# Altium footprint library PCB1.PcbLib: 7 footprints
Each footprint in its own frame and in the unit in brackets; x right, y up, seen from the top. Pads: shape width x height; smd on the part's side, far side on the other; paste and mask are expansions set on the pad; w line width, h text height; cw(c..) or ccw(c..) is an arc to the next point about the centre after c.
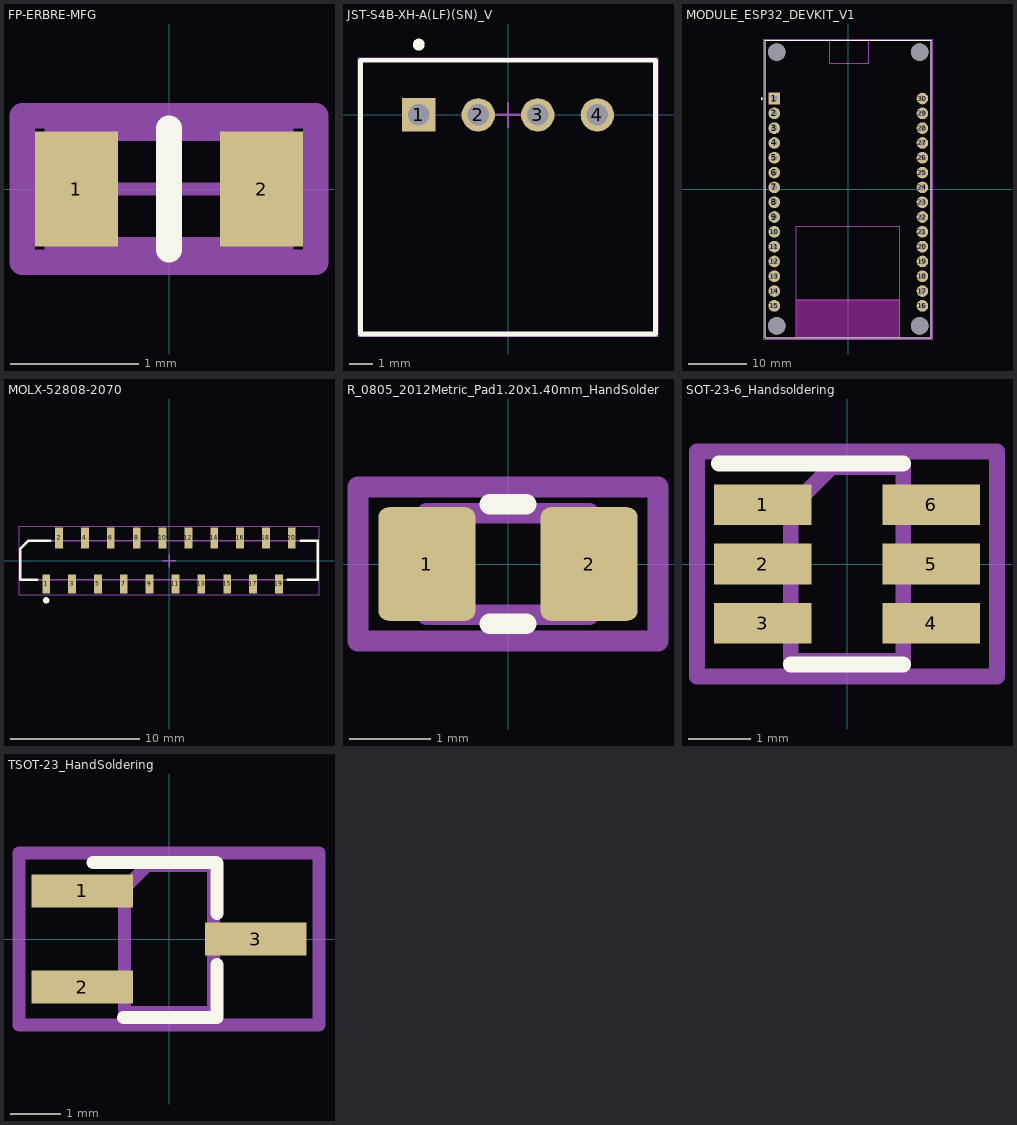
[diagram p0: the footprints below, top view; thin cyan lines are the x and y axes]

## FP-ERBRE-MFG [mm]
height 6.8
pads (2):
  rect 0.65x0.9 smd: 1(-0.725,0) 2(0.725,0)
Top Overlay:
  lines w0.2: 0,-0.475 0,0.475
Top 3D Body:
  lines w0.2: -0.875,-0.475 0.875,-0.475 0.875,0.475 -0.875,0.475 -0.875,-0.475
Top Component Center:
  lines w0.1: -0.5,0 0.5,0 ; 0,-0.5 0,0.5
Top Assembly:
  lines w0.2: -1.15,-0.575 1.15,-0.575 1.15,0.575 -1.15,0.575 -1.15,-0.575
  text ".Designator" at 0,-0.001 h1
Top Courtyard:
  lines w0.2: -1.15,-0.575 1.15,-0.575 1.15,0.575 -1.15,0.575 -1.15,-0.575
3D body "Fuse_Panasonic_Electronic_Components_ERB-RE5R00V_eec.STEP": height 0.25, standoff 0, extent -1.15,-0.575 1.15,0.575

## JST-S4B-XH-A(LF)(SN)_V [mm] "Header, 4-Leads, Body 12.4x11.5mm, Pitch 2.5mm"
height 6.1
pads (4):
  rect 1.4x1.4 hole 0.9: 1(-3.75,0)
  round 1.4 hole 0.9: 2(-1.25,0) 3(1.25,0) 4(3.75,0)
Top Overlay:
  circle w0.25: c-3.75,2.95 r0.125
  lines w0.2: -6.197,2.3 -6.2,2.3 ; -6.2,2.3 6.2,2.3 6.2,-9.2 -6.2,-9.2 -6.2,2.3
Top Assembly:
  lines w0.1: -6.2,-9.2 -6.2,2.3 6.2,2.3 6.2,-9.2 -6.2,-9.2
Top Courtyard:
  lines w0.05: -6.3,-9.3 -6.3,2.4 6.3,2.4 6.3,-9.3 -6.3,-9.3
  lines w0.1: -0.5,0 0.5,0 ; 0,-0.5 0,0.5
3D body "S4B-XH-A.STEP": height 6.15, standoff -3.4, extent -6.2,-9.2 6.2,2.3

## MODULE_ESP32_DEVKIT_V1 [mm]
height 6.8
pads (34):
  rect 2x2 / inner round 2 / far side rect 2x2 hole 1.02: 1(-12.7,15.515)
  round 2 hole 1.02: 2(-12.7,12.975) 3(-12.7,10.435) 4(-12.7,7.895) 5(-12.7,5.355) 6(-12.7,2.815) 7(-12.7,0.275) 8(-12.7,-2.265) 9(-12.7,-4.805) 10(-12.7,-7.345) 11(-12.7,-9.885) 12(-12.7,-12.425) 13(-12.7,-14.965) 14(-12.7,-17.505) 15(-12.7,-20.045) 16(12.7,-20.045) 17(12.7,-17.505) 18(12.7,-14.965) 19(12.7,-12.425) 20(12.7,-9.885) 21(12.7,-7.345) 22(12.7,-4.805) 23(12.7,-2.265) 24(12.7,0.275) 25(12.7,2.815) 26(12.7,5.355) 27(12.7,7.895) 28(12.7,10.435) 29(12.7,12.975) 30(12.7,15.515)
  round 3 hole 3 unplated: ""(-12.28,-23.475) ""(-12.28,23.475) ""(12.23,-23.475) ""(12.23,23.475)
Top Overlay:
  circle w0.2: c-14.85,15.515 r0.1
  lines w0.127: -14.28,-25.475 -8.91,-25.475 8.78,-25.475 14.23,-25.475 ; -14.28,-25.475 -14.28,25.475 ; -14.28,-25.475 -14.28,25.475 ; -14.28,-25.475 14.23,-25.475 ; -14.28,25.475 -3.211,25.475 3.5,25.475 14.23,25.475 ; -14.28,25.475 14.23,25.475 ; 14.23,-25.475 14.23,25.475 ; 14.23,-25.475 14.23,25.475
Keep-Out Layer:
  region: 8.78,-25.475 -8.91,-25.475 -8.91,-18.985 8.78,-18.985
  region: 8.78,-25.475 -8.91,-25.475 -8.91,-18.985 8.78,-18.985
Top Assembly:
  circle w0.2: c-14.85,15.515 r0.1
  lines w0.127: -8.91,-25.475 -8.91,-18.985 ; -8.91,-25.475 8.78,-25.475 ; -8.91,-25.475 -14.28,-25.475 -14.28,25.475 -3.211,25.475 ; -8.91,-18.985 8.78,-18.985 ; -8.91,-18.985 -8.91,-6.355 8.78,-6.355 8.78,-18.985 ; -3.211,25.475 -3.211,21.585 3.5,21.585 3.5,25.475 ; -3.211,25.475 3.5,25.475 ; 3.5,25.475 14.23,25.475 14.23,-25.475 8.78,-25.475 ; 8.78,-25.475 8.78,-18.985
Top Courtyard:
  lines w0.05: -14.53,-25.725 14.48,-25.725 14.48,25.725 -14.53,25.725 -14.53,-25.725
3D body "esp32_30pin.step": height 7.6, standoff -5.92, extent -14.5,-26.548 14.5,26.416

## MOLX-52808-2070 [mm] "FFC Connector, 20-Leads, Vertical, Pitch 1.0 mm, Mated Height 5.05 mm, SMT"
height 5.112
pads (20):
  rect 0.6x1.45 smd: 1(-9.5,-1.775) 3(-7.5,-1.775) 5(-5.5,-1.775) 7(-3.5,-1.775) 9(-1.5,-1.775) 11(0.5,-1.775) 13(2.5,-1.775) 15(4.5,-1.775) 17(6.5,-1.775) 19(8.5,-1.775)
  rect 0.6x1.65 smd: 2(-8.5,1.775) 4(-6.5,1.775) 6(-4.5,1.775) 8(-2.5,1.775) 10(-0.5,1.775) 12(1.5,1.775) 14(3.5,1.775) 16(5.5,1.775) 18(7.5,1.775) 20(9.5,1.775)
Top Overlay:
  circle w0.25: c-9.5,-3.05 r0.125
  lines w0.2: -10.2,-1.45 -11.5,-1.45 -11.5,0.95 -10.9,1.55 -9.2,1.55 ; 9.2,-1.45 11.5,-1.45 11.5,1.55 10.2,1.55
Top Assembly:
  lines w0.1: -11.5,-1.45 11.5,-1.45 11.5,1.55 -10.9,1.55 -11.5,0.95 -11.5,-1.45
Top Courtyard:
  lines w0.05: -11.6,-2.6 11.6,-2.6 11.6,2.7 -11.6,2.7 -11.6,-2.6
  lines w0.1: -0.492,0 0.508,0 ; 0.008,-0.5 0.008,0.5
3D body "528082070.stp": height 5.11, standoff 0.01, extent -11.5,-2.2 11.5,2.3

## R_0805_2012Metric_Pad1.20x1.40mm_HandSolder [mm]
pads (2):
  rrect21% 1.2x1.4 smd mask+0: 1(-1,0) 2(1,0)
Top Overlay:
  lines w0.254: -0.227,-0.735 0.227,-0.735 ; -0.227,0.735 0.227,0.735
Bottom Glue Points:
  lines w0.254: -1,-0.625 -1,0.625 1,0.625 1,-0.625 -1,-0.625
  text "'.Designator'" at 0.362,0.33 h0.5
Bottom Coating:
  lines w0.254: -1.85,-0.95 -1.85,0.95 1.85,0.95 1.85,-0.95 -1.85,-0.95
3D body "RESC2012X06N.step": height 0.6, standoff 0, extent -1.05,-0.675 1.05,0.675

## SOT-23-6_Handsoldering [mm]
pads (6):
  rect 1.56x0.65 smd mask+0: 1(-1.35,0.95) 2(-1.35,0) 3(-1.35,-0.95) 4(1.35,-0.95) 5(1.35,0) 6(1.35,0.95)
Top Overlay:
  lines w0.254: -2.05,1.61 0.9,1.61 ; -0.9,-1.61 0.9,-1.61
Bottom Glue Points:
  lines w0.254: -0.9,-1.55 -0.9,0.9 -0.25,1.55 0.9,1.55 0.9,-1.55 -0.9,-1.55
  text "'.Designator'" at -0.349,0.383 h0.5
Bottom Coating:
  lines w0.254: -2.4,-1.8 -2.4,1.8 2.4,1.8 2.4,-1.8 -2.4,-1.8
3D body "IC_Texas_Instruments_LM74700QDBVRQ1_eec.STEP": height 1.45, standoff 0, extent -1.4,-1.45 1.4,1.45

## TSOT-23_HandSoldering [mm]
pads (3):
  rect 2x0.65 smd mask+0: 1(-1.71,0.95) 2(-1.71,-0.95) 3(1.71,0)
Top Overlay:
  lines w0.254: -1.5,1.51 0.93,1.51 ; -0.9,-1.55 0.95,-1.55 0.95,-0.5 ; 0.95,0.5 0.95,1.5
Bottom Glue Points:
  lines w0.254: -0.88,-1.45 0.88,-1.45 0.88,1.45 -0.43,1.45 -0.88,1 -0.88,-1.45
  text "'.Designator'" at 0.349,-0.49 h0.5
Bottom Coating:
  lines w0.254: -2.96,-1.7 2.96,-1.7 2.96,1.7 -2.96,1.7 -2.96,-1.7
3D body "Diode_Bourns_CDSOT23-T24CAN_eec.STEP": height 1.17, standoff 0, extent -1.148,-1.45 1.148,1.45